# Altium footprint library DIP.PcbLib: 4 footprints
Each footprint in its own frame and in the unit in brackets; x right, y up, seen from the top. Pads: shape width x height; smd on the part's side, far side on the other; paste and mask are expansions set on the pad; w line width, h text height; cw(c..) or ccw(c..) is an arc to the next point about the centre after c.
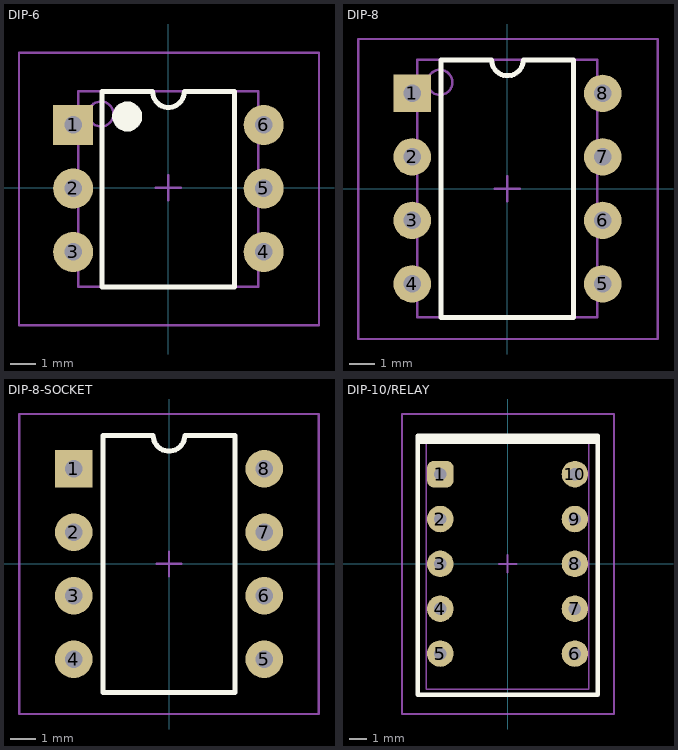
[diagram p0: the footprints below, top view; thin cyan lines are the x and y axes]

## DIP-6 [mm] "6 Leads; Pitch 2.54 mm"
height 5.08
pads (6):
  rect 1.6x1.6 hole 0.7: 1(-3.81,2.51)
  round 1.6 hole 0.7: 2(-3.81,-0.03) 3(-3.81,-2.57) 4(3.81,-2.57) 5(3.81,-0.03) 6(3.81,2.51)
Top Overlay:
  circle w0.6: c-1.65,2.85 r0.3
  lines w0.2: -2.65,-3.967 2.65,-3.967 2.65,3.85 0.635,3.85 cw(c0,3.85) -0.635,3.85 -2.65,3.85 -2.65,-3.967
Mechanical 13:
  circle w0.1: c-2.7,2.95 r0.5
  lines w0.1: -3.6,-3.967 3.6,-3.967 3.6,3.85 -3.6,3.85 -3.6,-3.967
Mechanical 15:
  lines w0.1: -0.5,0 0.5,0 ; 0,-0.5 0,0.5 ; -5.977,-5.5 -5.977,5.4 6.023,5.4 6.023,-5.5 -5.977,-5.5
3D body "User Library-DIP6-White.STEP": height 4.5, standoff -2.8, extent -3.935,-3.62 3.935,3.5

## DIP-8 [mm] "DIP; 8 Leads; Row Spacing 7.62 mm; Pitch 2.54 mm"
height 5.08
pads (8):
  rect 1.5x1.5 hole 0.7: 1(-3.81,3.81)
  round 1.5 hole 0.7: 2(-3.81,1.27) 3(-3.81,-1.27) 4(-3.81,-3.81) 5(3.81,-3.81) 6(3.81,-1.27) 7(3.81,1.27) 8(3.81,3.81)
Top Overlay:
  lines w0.2: -2.65,-5.15 -2.65,5.15 -0.635,5.15 ccw(c0,5.15) 0.635,5.15 2.65,5.15 2.65,-5.15 -2.65,-5.15
Mechanical 13:
  circle w0.1: c-2.7,4.25 r0.5
  lines w0.1: -3.6,-5.15 -3.6,5.15 3.6,5.15 3.6,-5.15 -3.6,-5.15
Mechanical 15:
  lines w0.1: -0.5,0 0.5,0 ; 0,-0.5 0,0.5 ; -5.977,-6.015 -5.977,5.985 6.023,5.985 6.023,-6.015 -5.977,-6.015
3D body "User Library-DIP-8P-M01.step": height 4.36, standoff -3, extent -3.97,-4.7 3.9,4.7

## DIP-8-SOCKET [mm] "DIP; 8 Leads; Row Spacing 7.62 mm; Pitch 2.54 mm"
height 5.08
pads (8):
  rect 1.5x1.5 hole 0.7: 1(-3.81,3.81)
  round 1.5 hole 0.7: 2(-3.81,1.27) 3(-3.81,-1.27) 4(-3.81,-3.81) 5(3.81,-3.81) 6(3.81,-1.27) 7(3.81,1.27) 8(3.81,3.81)
Top Overlay:
  lines w0.2: -2.65,-5.15 -2.65,5.15 -0.635,5.15 ccw(c0,5.15) 0.635,5.15 2.65,5.15 2.65,-5.15 -2.65,-5.15
Mechanical 15:
  lines w0.1: -0.5,0 0.5,0 ; 0,-0.5 0,0.5 ; -6,-6 6,-6 6,6 -6,6 -6,-6
3D body "User Library-8pin 0_3inch 2_54mm IC DIP Socket Round Hole.step": height 5.01, standoff -2.5, extent -5.08,-5.06 5.08,5.1

## DIP-10/RELAY [mm] "DIP; 10 Leads; Row Spacing 7.62 mm; Pitch 2.54 mm"
height 5.08
pads (10):
  rrect50% 1.5x1.5 hole 0.7: 1(-3.81,5.08)
  round 1.5 hole 0.7: 2(-3.81,2.54) 3(-3.81,0) 4(-3.81,-2.54) 5(-3.81,-5.08) 6(3.81,-5.08) 7(3.81,-2.54) 8(3.81,0) 9(3.81,2.54) 10(3.81,5.08)
Top Overlay:
  rectangle: -5.1,6.8 5.1,7.25
  lines w0.254: -5.1,-7.4 -5.1,7.25 5.1,7.25 5.1,-7.4 -5.1,-7.4
Mechanical 13:
  lines w0.1: -4.6,-7.1 -4.6,7.1 4.6,7.1 4.6,-7.1 -4.6,-7.1
Mechanical 15:
  lines w0.1: -0.5,0 0.5,0 ; 0,-0.5 0,0.5 ; -5.977,-8.5 6.023,-8.5 6.023,8.485 -5.977,8.485 -5.977,-8.5
3D body "relay_rsm850b-6112-85-1003.stp": height 5.75, standoff -3.75, extent -4.55,-7.05 4.55,7.05